# Altium schematic symbol library SC-07-650.SchLib: 1 symbol
Pins are listed as number, name and electrical type; pins without a type are passive.

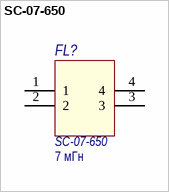
[diagram p0: symbol SC-07-650]

## SC-07-650
designator FL?  value 7 мГн
EMI Filter; ID: SC-07-650
footprint SC-07-650
pins: 1, 2, 3, 4